# EAGLE library part XS1-SU01 (library sjg-xmos)
XMOS XS!-SU01 in BGA96 package, optimised for a 6/6 trace/space gap
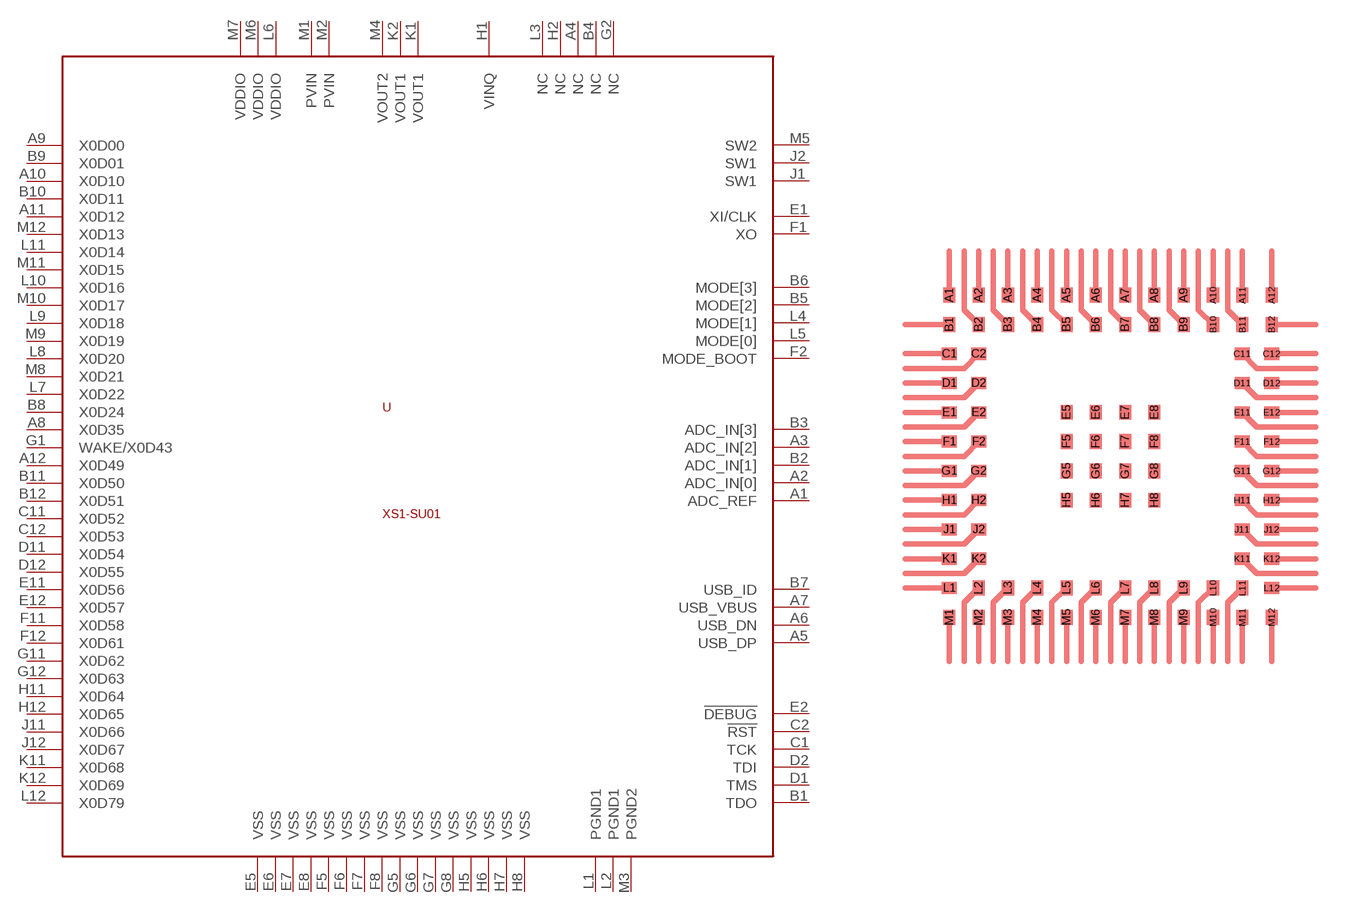
[diagram p0: symbol with the pads of BGA96-6-6; footprint BGA96-6-6]

Designator prefix -

## XS1-SU01  [BGA96-6-6]
A1  ADC_REF
A2  ADC_IN[0]
A3  ADC_IN[2]
A4  NC
A5  USB_DP
A6  USB_DN
A7  USB_VBUS
A8  X0D35
A9  X0D00
A10  X0D10
A11  X0D12
A12  X0D49
B1  TDO
B2  ADC_IN[1]
B3  ADC_IN[3]
B4  NC
B5  MODE[2]
B6  MODE[3]
B7  USB_ID
B8  X0D24
B9  X0D01
B10  X0D11
B11  X0D50
B12  X0D51
C1  TCK
C2  !RST!
C11  X0D52
C12  X0D53
D1  TMS
D2  TDI
D11  X0D54
D12  X0D55
E1  XI/CLK
E2  !DEBUG!
E5  VSS
E6  VSS
E7  VSS
E8  VSS
E11  X0D56
E12  X0D57
F1  XO
F2  MODE_BOOT
F5  VSS
F6  VSS
F7  VSS
F8  VSS
F11  X0D58
F12  X0D61
G1  WAKE/X0D43
G2  NC
G5  VSS
G6  VSS
G7  VSS
G8  VSS
G11  X0D62
G12  X0D63
H1  VINQ
H2  NC
H5  VSS
H6  VSS
H7  VSS
H8  VSS
H11  X0D64
H12  X0D65
J1  SW1
J2  SW1
J11  X0D66
J12  X0D67
K1  VOUT1
K2  VOUT1
K11  X0D68
K12  X0D69
L1  PGND1
L2  PGND1
L3  NC
L4  MODE[1]
L5  MODE[0]
L6  VDDIO
L7  X0D22
L8  X0D20
L9  X0D18
L10  X0D16
L11  X0D14
L12  X0D79
M1  PVIN
M2  PVIN
M3  PGND2
M4  VOUT2
M5  SW2
M6  VDDIO
M7  VDDIO
M8  X0D21
M9  X0D19
M10  X0D17
M11  X0D15
M12  X0D13

## Footprint BGA96-6-6 (pad centres in mm)
smd 0.33 x 0.406: A1 -4.4,4.4; A2 -3.6,4.4; A3 -2.8,4.4; A4 -2,4.4; A5 -1.2,4.4; A6 -0.4,4.4; A7 0.4,4.4; A8 1.2,4.4; A9 2,4.4; A10 2.8,4.4; A11 3.6,4.4; A12 4.4,4.4; B1 -4.4,3.6; B2 -3.6,3.6; B3 -2.8,3.6; B4 -2,3.6; B5 -1.2,3.6; B6 -0.4,3.6; B7 0.4,3.6; B8 1.2,3.6; B9 2,3.6; B10 2.8,3.6; B11 3.6,3.6; B12 4.4,3.6; E5 -1.2,1.2; E6 -0.4,1.2; E7 0.4,1.2; E8 1.2,1.2; F5 -1.2,0.4; F6 -0.4,0.4; F7 0.4,0.4; F8 1.2,0.4; G5 -1.2,-0.4; G6 -0.4,-0.4; G7 0.4,-0.4; G8 1.2,-0.4; H5 -1.2,-1.2; H6 -0.4,-1.2; H7 0.4,-1.2; H8 1.2,-1.2; L2 -3.6,-3.6; L3 -2.8,-3.6; L4 -2,-3.6; L5 -1.2,-3.6; L6 -0.4,-3.6; L7 0.4,-3.6; L8 1.2,-3.6; L9 2,-3.6; L10 2.8,-3.6; L11 3.6,-3.6; M1 -4.4,-4.4; M2 -3.6,-4.4; M3 -2.8,-4.4; M4 -2,-4.4; M5 -1.2,-4.4; M6 -0.4,-4.4; M7 0.4,-4.4; M8 1.2,-4.4; M9 2,-4.4; M10 2.8,-4.4; M11 3.6,-4.4; M12 4.4,-4.4
smd 0.406 x 0.33: C1 -4.4,2.8; C2 -3.6,2.8; C11 3.6,2.8; C12 4.4,2.8; D1 -4.4,2; D2 -3.6,2; D11 3.6,2; D12 4.4,2; E1 -4.4,1.2; E2 -3.6,1.2; E11 3.6,1.2; E12 4.4,1.2; F1 -4.4,0.4; F2 -3.6,0.4; F11 3.6,0.4; F12 4.4,0.4; G1 -4.4,-0.4; G2 -3.6,-0.4; G11 3.6,-0.4; G12 4.4,-0.4; H1 -4.4,-1.2; H2 -3.6,-1.2; H11 3.6,-1.2; H12 4.4,-1.2; J1 -4.4,-2; J2 -3.6,-2; J11 3.6,-2; J12 4.4,-2; K1 -4.4,-2.8; K2 -3.6,-2.8; K11 3.6,-2.8; K12 4.4,-2.8; L1 -4.4,-3.6; L12 4.4,-3.6